# EAGLE library part MAX6126 (library 1A-meinLib)
Ultra-high-Precision, Ultra-Low-Noise Series Voltage Reference, 5ppm, MAXIM
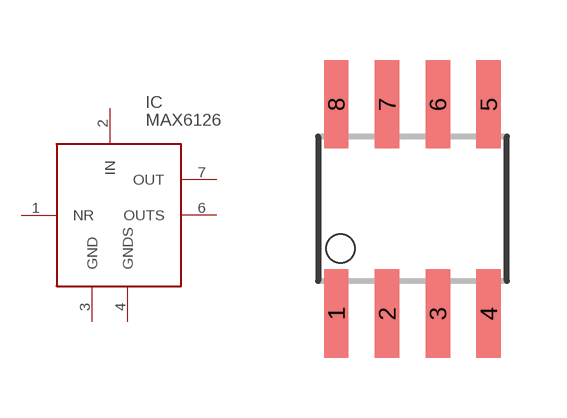
[diagram p373: symbol with the pads of SO08; footprint SO08]

Designator prefix IC

## MAX6126  [SO08]
1  NR  pas
2  IN  pwr
3  GND  pwr
4  GNDS  pas
6  OUTS  pas
7  OUT  out

## Footprint SO08 (pad centres in mm)
Small Outline Package
smd 0.61 x 2.21: 1 -1.905,-2.616; 2 -0.635,-2.616; 3 0.635,-2.616; 4 1.905,-2.616; 5 1.905,2.616; 6 0.635,2.616; 7 -0.635,2.616; 8 -1.905,2.616